# Altium footprint library 主控器件封装库.PcbLib: 24 footprints (part 1 of 2)
Each footprint in its own frame and in the unit in brackets; x right, y up, seen from the top. Pads: shape width x height; smd on the part's side, far side on the other; paste and mask are expansions set on the pad; w line width, h text height; cw(c..) or ccw(c..) is an arc to the next point about the centre after c.
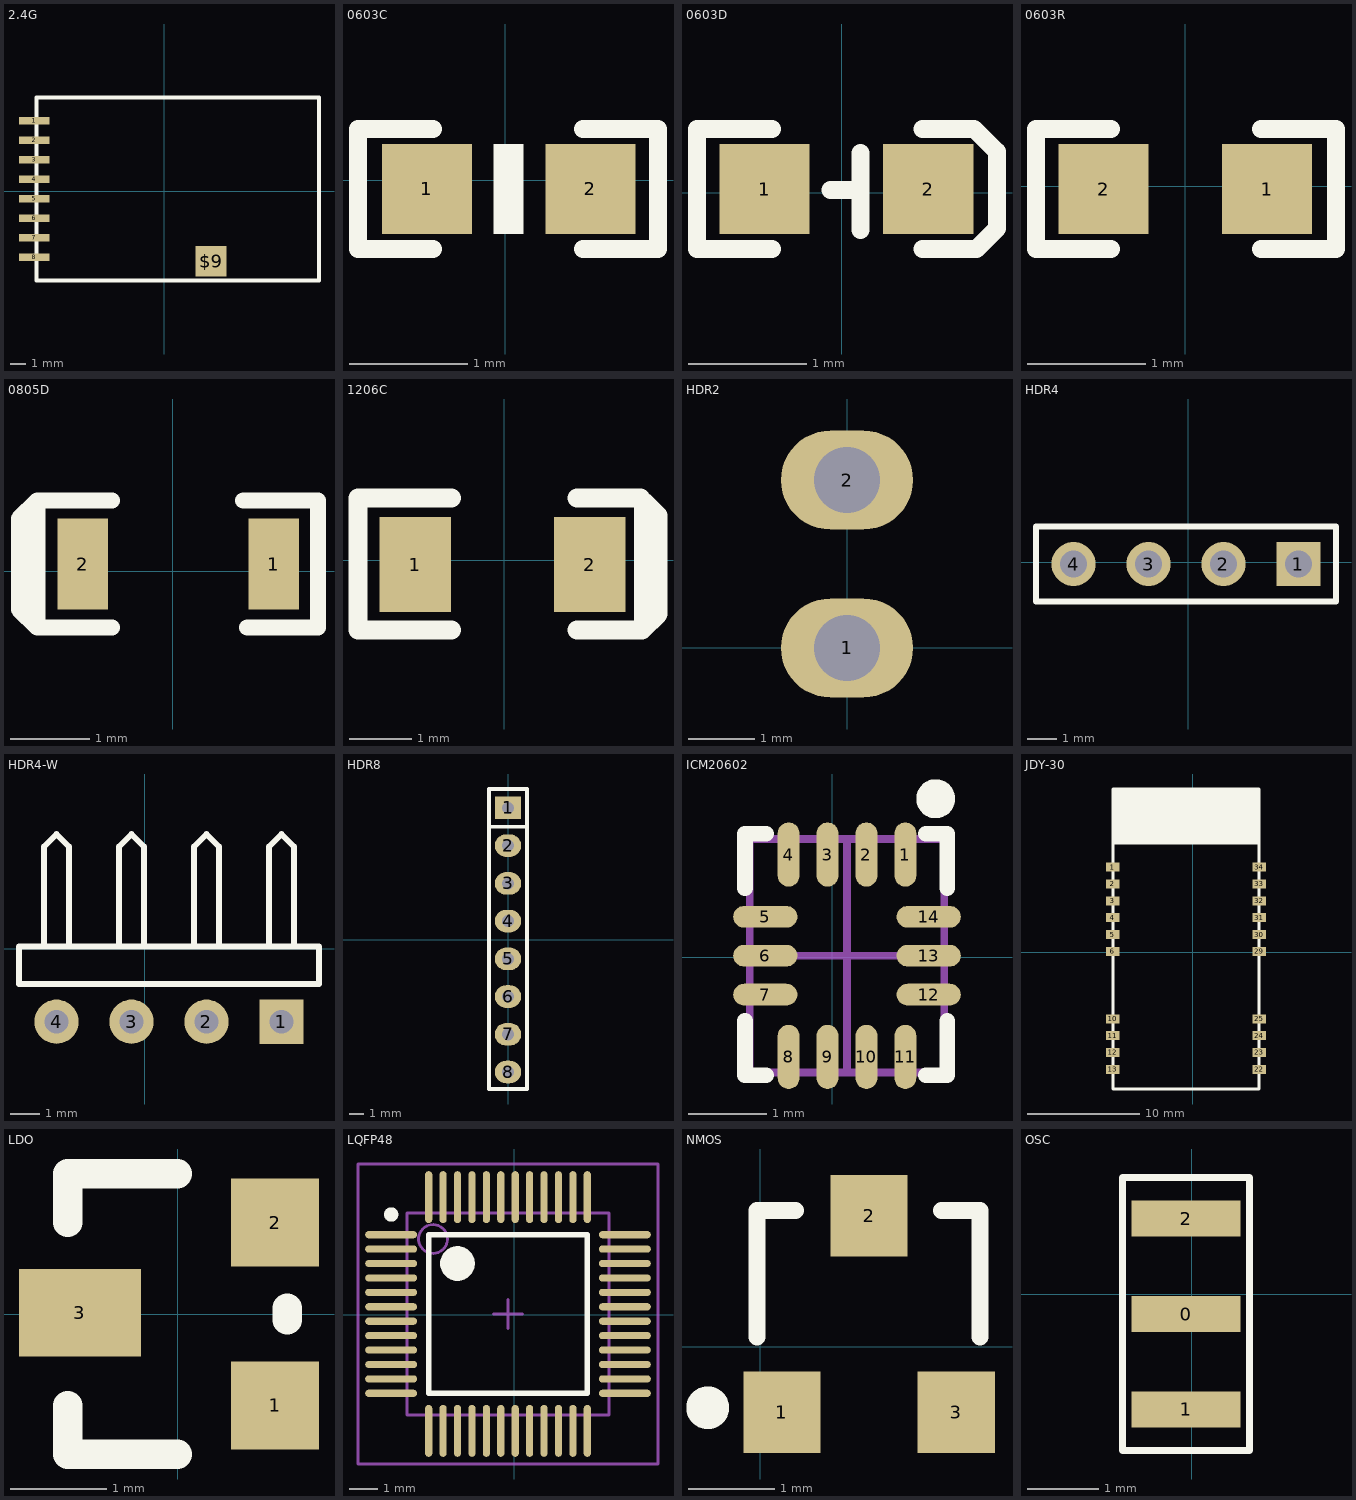
[diagram p0: the footprints below, top view; thin cyan lines are the x and y axes]

## 2.4G [mm]
pads (9):
  rect 2x0.5 smd: 1(-8.46,4.581) 2(-8.46,3.311) 3(-8.46,2.041) 4(-8.46,0.771) 5(-8.46,-0.499) 6(-8.46,-1.769) 7(-8.46,-3.039) 8(-8.46,-4.309)
  rect 2x2 smd: $9(3.048,-4.572)
Top Overlay:
  lines w0.254: -8.333,-5.833 10.082,-5.833 10.082,6.105 -8.333,6.105 -8.333,-5.833
3D body: height 0.8, standoff 0, extent -8.509,-5.817 9.491,6.183

## 0603C [mil]
pads (2):
  rect 30x30 smd: 1(-26,-2.87) 2(28.5,-2.93)
Top Overlay:
  region: 6.15,-17.9 6.15,12.1 -3.85,12.1 -3.85,-17.9
  lines w6: -24,-22.93 -49,-22.93 -49,17.07 -24,17.07 ; 26,-22.93 51,-22.93 51,17.07 26,17.07
3D body: height 11.89, standoff 0, extent -29.49,-17.5 33.5,14

## 0603D [mil]
pads (2):
  rect 30x30 smd: 1(-25.65,1.23) 2(28.85,1.17)
Top Overlay:
  lines w6: -23.15,-18.77 -48.15,-18.77 -48.15,21.23 -23.15,21.23 ; -3.66,0.96 4.1,0.85 ; 6.26,-12.34 6.26,13.26 ; 26.85,-18.77 44.91,-18.77 51.73,-11.94 51.73,13.65 44.15,21.23 26.85,21.23
3D body: height 23.82, standoff -0.04, extent -29.9,-13.8 33.1,17.78

## 0603R [mil]
pads (2):
  rect 30x30 smd: 1(27.25,-1.03) 2(-27.25,-0.97)
Top Overlay:
  lines w6: -24.75,-20.97 -49.75,-20.97 -49.75,19.03 -24.75,19.03 ; 25.25,-20.97 50.25,-20.97 50.25,19.03 25.25,19.03
3D body: height 17.72, standoff 0, extent -27.99,-19 35,13.29

## 0805D [mil]
pads (2):
  rect 25x45 smd: 1(49.98,3.46) 2(-44.4,3.46)
Top Overlay:
  lines w8: -72,-20 -72,25 ; -30,-28 -67,-28 ; -30,35 -67,35 ; 35,35 72,35 72,-28 37,-28 ; -67,-28 -67,35 ; -67,-28 -76,-19 -76,26 -67,35
3D body: height 35.43, standoff -3.54, extent -46.21,-21 52.21,28.21

## 1206C [mil]
pads (2):
  rect 45x60 smd: 1(-56,-2.81) 2(54,-2.81)
Top Overlay:
  lines w12: -33,-44 -92,-44 -92,39 -33,39 ; 46,-44 87,-44 97,-34 97,28 88,37 88,-43 ; 46,39 86,39
3D body: height 70.87, standoff 0, extent -67.93,-36.37 65.93,34.5

## HDR2 [mm]
pads (2):
  oval 2x1.5 hole 1: 1(0,0) 2(0,2.54)
3D body: height 2.54, standoff -1, extent -0.361,-1.279 9.989,3.801

## HDR4 [mm]
pads (4):
  rect 1.5x1.5 hole 0.9: 1(3.735,-0.067)
  round 1.5 hole 0.9: 2(1.195,-0.067) 3(-1.345,-0.067) 4(-3.885,-0.067)
Top Overlay:
  lines w0.2: -5.155,-1.337 5.005,-1.337 5.005,1.203 -5.155,1.203 -5.155,-1.337

## HDR4-W [mm]
pads (4):
  rect 1.5x1.5 hole 0.8: 1(4.624,-2.478)
  round 1.5 hole 0.8: 2(2.084,-2.478) 3(-0.456,-2.478) 4(-2.996,-2.478)
Top Layer:
  lines w0.254: -0.364,-2.042 ccw(c0.239,-2.137) -0.193,-2.568 ; -0.339,-2.422 cw(c-0.143,-2.422) -0.233,-2.249 ccw(c-0.143,-2.422) -0.339,-2.422 ; -0.339,-2.422 ccw(c-0.534,-2.422) -0.444,-2.249 cw(c-0.534,-2.422) -0.339,-2.422
Top Overlay:
  lines w0.2: -3.419,0.062 -3.419,3.448 -2.996,3.872 -2.573,3.448 -2.573,0.062 ; -0.879,0.062 -0.879,3.448 -0.456,3.872 -0.033,3.448 -0.033,0.062 ; 1.661,0.062 1.661,3.448 2.084,3.872 2.507,3.448 2.507,0.062 ; 4.201,0.062 4.201,3.448 4.624,3.872 5.047,3.448 5.047,0.062 ; -4.266,-1.208 -4.266,0.062 5.894,0.062 5.894,-1.208 -4.266,-1.208

## HDR8 [mil]
pads (8):
  rect 70x60 hole 32: 1(0,350)
  oval 70x60 hole 32: 2(0,250) 3(0,150) 4(0,50) 5(0,-50) 6(0,-150) 7(0,-250) 8(0,-350)
Top Overlay:
  lines w10: -50,300 50,300 ; -50,-395 50,-395 50,400 -50,400 -50,-395
3D body: height 336.22, standoff -118.11, extent -50,-400 50,400

## ICM20602 [mm]
pads (14):
  oval 0.28x0.825 smd mask+0.051: 1(0.939,1.317) 2(0.439,1.317) 3(-0.061,1.317) 4(-0.561,1.317) 8(-0.561,-1.283) 9(-0.061,-1.283) 10(0.439,-1.283) 11(0.939,-1.283)
  oval 0.825x0.28 smd mask+0.051: 5(-0.861,0.517) 6(-0.861,0.017) 7(-0.861,-0.483) 12(1.239,-0.483) 13(1.239,0.017) 14(1.239,0.517)
Top Overlay:
  circle w0.25: c1.328,2.034 r0.125
  lines w0.2: -1.122,-0.816 -1.122,-1.516 -0.847,-1.516 ; -1.122,0.884 -1.122,1.584 -0.847,1.584 ; 1.203,-1.516 1.478,-1.516 1.478,-0.816 ; 1.203,1.584 1.478,1.584 1.478,0.884
Mechanical 13:
  lines w0.1: -1.061,0.017 1.439,0.017 ; 0.189,-1.483 0.189,1.517 ; -1.061,-1.483 -1.061,1.517 1.439,1.517 1.439,-1.483 -1.061,-1.483
3D body: height 0.8, standoff -0.06, extent -1.061,-1.483 1.439,1.517

## JDY-30 [mm]
pads (20):
  rect 1.2x0.8 smd: 1(-7.11,7.564) 2(-7.11,6.064) 3(-7.11,4.564) 4(-7.11,3.064) 5(-7.11,1.564) 6(-7.11,0.064) 10(-7.11,-5.936) 11(-7.11,-7.436) 12(-7.11,-8.936) 13(-7.11,-10.436) 22(5.89,-10.436) 23(5.89,-8.936) 24(5.89,-7.436) 25(5.89,-5.936) 29(5.89,0.064) 30(5.89,1.564) 31(5.89,3.064) 32(5.89,4.564) 33(5.89,6.064) 34(5.89,7.564)
Top Overlay:
  rectangle: -7.11,9.714 5.89,14.514
  lines w0.254: -7.11,9.714 5.89,9.714 ; -7.11,-12.186 -7.11,14.514 5.89,14.514 5.89,-12.186 -7.11,-12.186
3D body: height 4.31, standoff 0, extent -7.16,-12.217 5.84,14.783

## LDO [mil]
pads (3):
  rect 36x36 smd: 1(40,-37.5) 2(40,37.5)
  rect 50x36 smd: 3(-40,0.5)
Top Overlay:
  lines w12: -45,-37.5 -45,-57.5 0,-57.5 ; -45,37.5 -45,57.5 0,57.5 ; 45,-2.5 45,2.5
3D body: height 39.37, standoff -0.79, extent -44.86,-56.99 52.62,57.97

## LQFP48 [mm]
pads (48):
  oval 1.8x0.25 smd: 1(-4.274,2.778) 2(-4.274,2.278) 3(-4.274,1.778) 4(-4.274,1.278) 5(-4.274,0.778) 6(-4.274,0.278) 7(-4.274,-0.222) 8(-4.274,-0.722) 9(-4.274,-1.222) 10(-4.274,-1.722) 11(-4.274,-2.222) 12(-4.274,-2.722) 25(3.826,-2.722) 26(3.826,-2.222) 27(3.826,-1.722) 28(3.826,-1.222) 29(3.826,-0.722) 30(3.826,-0.222) 31(3.826,0.278) 32(3.826,0.778) 33(3.826,1.278) 34(3.826,1.778) 35(3.826,2.278) 36(3.826,2.778)
  oval 0.25x1.8 smd: 13(-2.974,-4.022) 14(-2.474,-4.022) 15(-1.974,-4.022) 16(-1.474,-4.022) 17(-0.974,-4.022) 18(-0.474,-4.022) 19(0.026,-4.022) 20(0.526,-4.022) 21(1.026,-4.022) 22(1.526,-4.022) 23(2.026,-4.022) 24(2.526,-4.022) 37(2.526,4.078) 38(2.026,4.078) 39(1.526,4.078) 40(1.026,4.078) 41(0.526,4.078) 42(0.026,4.078) 43(-0.474,4.078) 44(-0.974,4.078) 45(-1.474,4.078) 46(-1.974,4.078) 47(-2.474,4.078) 48(-2.974,4.078)
Top Overlay:
  circle w0.25: c-4.274,3.478 r0.125
  circle w0.6: c-1.974,1.778 r0.3
  lines w0.2: -2.974,-2.722 -2.974,2.778 2.526,2.778 2.526,-2.722 -2.974,-2.722
Mechanical 13:
  circle w0.1: c-2.824,2.628 r0.5
  lines w0.1: -3.724,-3.472 -3.724,3.528 3.276,3.528 3.276,-3.472 -3.724,-3.472
Mechanical 15:
  lines w0.1: -0.724,0.028 0.276,0.028 ; -0.224,-0.472 -0.224,0.528 ; -5.424,-5.172 -5.424,5.228 4.976,5.228 4.976,-5.172 -5.424,-5.172
3D body: height 1.45, standoff 0, extent -4.713,-4.477 4.293,4.528

## NMOS [mm]
pads (3):
  rect 0.9x0.95 smd: 1(0.254,-0.762) 2(1.27,1.524) 3(2.286,-0.762)
Top Overlay:
  circle w0.25: c-0.612,-0.712 r0.125
  lines w0.2: -0.037,0.113 -0.037,1.588 0.413,1.588 ; 2.113,1.588 2.563,1.588 2.563,0.113
3D body: height 1, standoff -0.02, extent -0.165,-0.87 2.755,1.606

## OSC [mil]
pads (3):
  rect 60x19.68 smd: 0(-3.25,-11) 1(-3.25,-63.5) 2(-3.25,41.5)
Top Overlay:
  lines w3.94: -38.25,-86 -38.25,-56 -38.25,64 31.75,64 31.75,-86 -38.25,-86
3D body: height 27.6, standoff 0, extent -27,-76.99 24.18,48.99